# Altium schematic symbol library RES,110R,1%,0.1W,0603.Schlib: 1 symbol
Pins are listed as number, name and electrical type; pins without a type are passive.

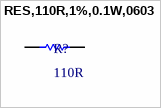
[diagram p0: symbol RES,110R,1%,0.1W,0603]

## RES,110R,1%,0.1W,0603
designator R?, comment 110R
110 Ohms ±0.5% 0.063W, 1/16W Chip Resistor 0603 (1608 Metric)  Thin Film
pins: 1, 2